# Altium schematic symbol library Passive.SchLib: 71 symbols
Pins are listed as number, name and electrical type; pins without a type are passive.

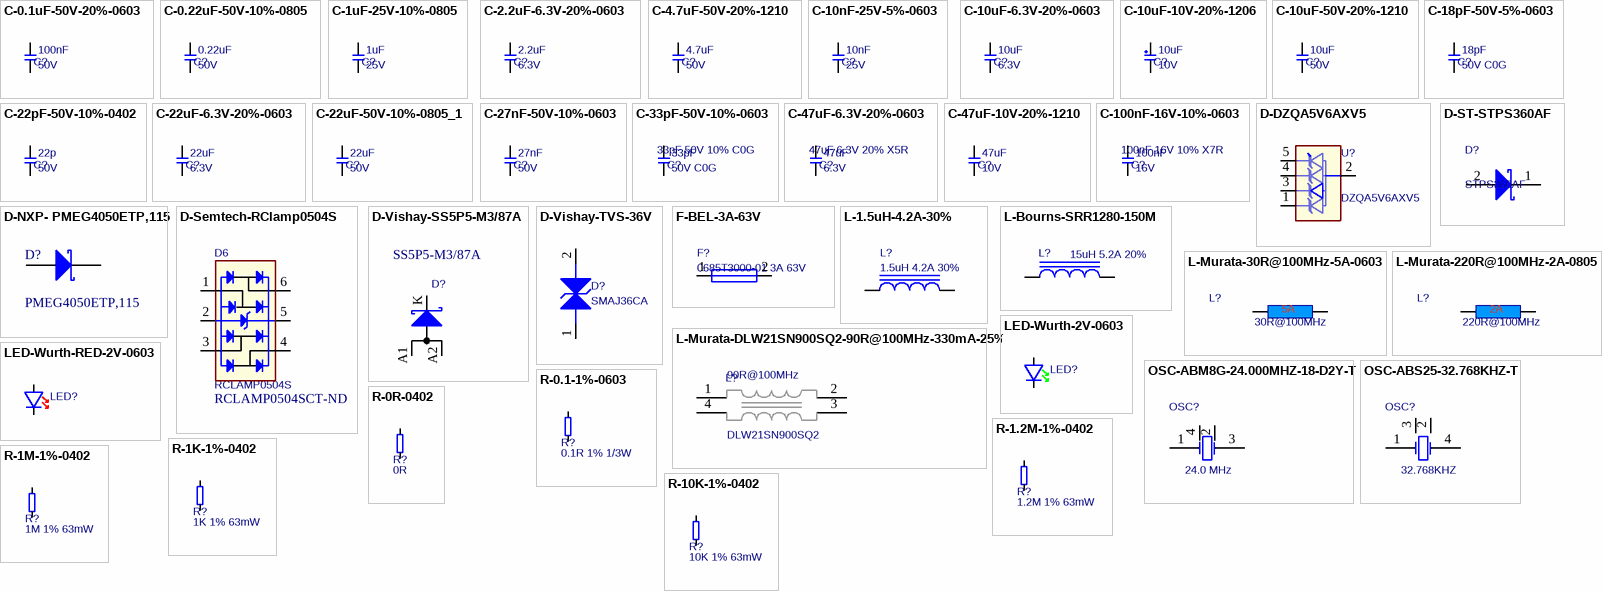
[diagram p0: symbols C-0.1uF-50V-20%-0603 to R-10K-1%-0402]

## C-0.1uF-50V-20%-0603
designator C?, comment value 100nF  Rating: 50V  (hidden comment: 0.1uF 50V 20% X5R)
Capacitor Ceramic X5R 0.1uF 50V 20% 0603; Tolerance: 20%; Supplier 1: Digi-Key; Supplier Part Number 1: 445-12499-1-ND; Type: X5R
footprint T_CAPC0603X33N
pins: 1, 2

## C-0.22uF-50V-10%-0805
designator C?, comment value 0.22uF  Rating: 50V  (hidden comment: 0.22uF 50V 10% X7R)
Capacitor Ceramic X7R 0.22uF 50V 10% 0805; Supplier 1: Digi-Key; Supplier Part Number 1: 1276-1093-1-ND; Type: X7R; Tolerance: 10%
footprint T_CAPC0805X125N
pins: 1, 2

## C-1uF-25V-10%-0805
designator C?, comment value 1uF  Rating: 25V  (hidden comment: 1uF 25V 10% X7R)
Capacitor Ceramic X7R 1uF 25V 10% 0805; Tolerance: 10%; Type: X7R; Supplier 1: Digi-Key; Supplier Part Number 1: 399-8004-1-ND
footprint T_CAPC0805X125N
pins: 1, 2

## C-2.2uF-6.3V-20%-0603
designator C?, comment value 2.2uF  Rating: 6.3V  (hidden comment: 2.2uF 6.3V 20% X5R)
Capacitor Ceramic X5R 2.2uF 6.3V 20% 0603; Tolerance: 20%; Supplier 1: Digi-Key; Supplier 2: Digi-Key; Supplier Part Number 2: 490-14808-1-ND; Supplier Part Number 1: 311-1814-1-ND; Type: X5R
footprint T_CAPC0603X33N
pins: 1, 2

## C-4.7uF-50V-20%-1210
designator C?, comment value 4.7uF  Rating: 50V  (hidden comment: 4.7uF 50V 20% X7R)
Capacitor Ceramic X7R 4.7uF 50V 20% 1206; Supplier 1: Digi-Key; Supplier Part Number 1: 1276-2789-1-ND; Tolerance: 20%; Type: X7R
footprint T_CAPC1206X180N (Ceramic Capacitor 1206 (3216 metric), max height 1.8mm)
pins: 1, 2

## C-10nF-25V-5%-0603
designator C?, comment value 10nF  Rating: 25V  (hidden comment: 10nF 25V 5% C0G)
Capacitor Ceramic C0G 10nF 25V 5% 0603; Tolerance: 10%; Type: X7R; Supplier 1: Digi-Key; Supplier Part Number 1: 399-7838-1-ND
footprint T_CAPC0603X33N
pins: 1, 2

## C-10uF-6.3V-20%-0603
designator C?, comment value 10uF  Rating: 6.3V  (hidden comment: 10uF 6.3V 20% X5R)
Capacitor Ceramic X5R 10uF 6.3V 20% 0603; Tolerance: 10%; Type: X7R; Supplier 1: Digi-Key; Supplier 2: Digi-Key; Supplier 3: Digi-Key; Supplier Part Number 1: 490-3896-1-ND; Supplier Part Number 2: 490-3896-6-ND; Supplier Part Number 3: 490-3896-2-ND
footprint T_CAPC0603X33N
pins: 1, 2

## C-10uF-10V-20%-1206
designator C?, comment value 10uF  Rating: 10V  (hidden comment: 10uF 10V 20% Tantalium)
Capacitor Tantalium 10uF 10V 20% 1206; Tolerance: 20%; Supplier 1: Digi-Key; Type: Tantalium; Supplier Part Number 1: 718-2335-1-ND
footprint T_CAPC1206X180N (Ceramic Capacitor 1206 (3216 metric), max height 1.8mm)
pins: 1, 2

## C-10uF-50V-20%-1210
designator C?, comment value 10uF  Rating: 50V  (hidden comment: 10uF 50V 20% X5R)
Capacitor Ceramic X5R 10uF 50V 20% 1210; Tolerance: 10%; Type: X7R; Supplier 1: Digi-Key; Supplier Part Number 1: 587-2225-1-ND; Footprint: C1210
footprint CAPC3225X160N
pins: 1, 2

## C-18pF-50V-5%-0603
designator C?, comment value 18pF  Rating: 50V  Type: C0G  (hidden comment: 18pF 50V 5% C0G)
Capacitor Ceramic C0G 18pF 50V 5% 0603; Tolerance: 5%; Supplier 1: Digi-Key; Supplier Part Number 1: 311-1061-1-ND
footprint T_CAPC0603X33N
pins: 1, 2

## C-22pF-50V-10%-0402
designator C?, comment value 22p  Rating: 50V  (hidden comment: 22pF 50V 10% C0G)
Capacitor Ceramic C0G 22pF 50V 10% 0603; Tolerance: 10%; Type: C0G; Footprint: C0402; Supplier 1: Digi-Key; Supplier Part Number 1: 478-7914-1-ND
footprint T_CAPC0603X33N
pins: 1, 2

## C-22uF-6.3V-20%-0603
designator C?, comment value 22uF  Rating: 6.3V  (hidden comment: 22uF 6.3V 20% X5R)
Capacitor Ceramic X5R 22uF 6.3V 20% 0603; Tolerance: 20%; Type: X5R; Supplier 1: Digi-Key; Supplier Part Number 1: 445-8028-1-ND
footprint T_CAPC0603X33N
pins: 1, 2

## C-22uF-50V-10%-0805_1
designator C?, comment value 22uF  Rating: 50V  (hidden comment: 0.22uF 50V 10% X7R)
Capacitor Ceramic X7R 0.22uF 50V 10% 0805; Tolerance: 10%; Type: X7R; Supplier 1: Digi-Key; Supplier Part Number 1: 1276-1093-1-ND
footprint T_CAPC0805X125N
pins: 1, 2

## C-27nF-50V-10%-0603
designator C?, comment value 27nF  Rating: 50V  (hidden comment: 27nF 50V 20% X7R)
Capacitor Ceramic X7R 27nF 50V 10% 0603; Tolerance: 10%; Type: X7R; Supplier 1: Digi-Key; Supplier Part Number 1: 1276-2025-1-ND
footprint T_CAPC0603X33N
pins: 1, 2

## C-33pF-50V-10%-0603
designator C?, comment 33pF 50V 10% C0G  value 33pF  Type: C0G  Rating: 50V
Capacitor Ceramic C0G 33pF 50V 10% 0603; Tolerance: 10%; Supplier 1: Digi-Key; Supplier 2: Digi-Key; Supplier 3: Digi-Key; Supplier Part Number 1: 478-12701-1-ND; Supplier Part Number 2: 478-12701-6-ND; Supplier Part Number 3: 478-12701-2-ND
footprint T_CAPC0603X33N
pins: 1, 2

## C-47uF-6.3V-20%-0603
designator C?, comment 47uF 6.3V 20% X5R  value 47uF  Rating: 6.3V
Capacitor Ceramic X5R 47uF 6.3V 20% 0603; Tolerance: 10%; Type: X7R; Supplier 1: Digi-Key; Supplier Part Number 1: 490-13247-1-ND
footprint T_CAPC0603X33N
pins: 1, 2

## C-47uF-10V-20%-1210
designator C?, comment value 47uF  Rating: 10V  (hidden comment: 47uF 10V 20% X5R)
Capacitor Ceramic X5R 47uF 10V 20% 1210; Type: X7R; Tolerance: 20%; Supplier 1: Digi-Key; Supplier Part Number 1: 445-6711-1-ND
footprint CAPC3225X160N
pins: 1, 2

## C-100nF-16V-10%-0603
designator C?, comment 100nF 16V 10% X7R  value 100nF  Rating: 16V
Capacitor Ceramic X7R 100nF 16V 10% 0603; Tolerance: 10%; Type: X7R; Footprint Checked: -; Supplier 1: Digi-Key; Supplier Part Number 1: 1276-1001-1-ND
footprint T_CAPC0603X33N
pins: 1, 2

## D-DZQA5V6AXV5
designator U?, comment DZQA5V6AXV5
13V Clamp 2.5A (8/20µs) Ipp Tvs Diode Surface Mount 5-TSSOP; FP_DESC: SOT553; MFG: DIODES; Symbol Checked: Ok; Replacement Allowed: No; MFG_PN: DZQA5V6AXV5; Footprint Checked: Assign OK, Footprint OK; Supplier 1: Digi-Key; Supplier Part Number 1: DZQA5V6AXV5DICT-ND
footprint SOTFL50P162X62-5N (SOTFL,0.50mm,pitch;5 pin,1.175mm W X 1.60mm L X 0.62mm H body)
pins: 1, 2, 3, 4, 5

## D-NXP- PMEG4050ETP,115
designator D?, comment PMEG4050ETP,115
Diode Schottky 40V 5A Surface Mount CFP5; Manufacturer: Nexperia USA Inc.; Supplier 1: Digi-Key; Supplier Part Number 1: 1727-1732-1-ND; Manufacturer Part Number: PMEG4050ETP,115
footprint D_SOD128 (Bidirectional ESD protection)
pins: 1 K, 2 A

## D-Semtech-RClamp0504S
designator D6, comment Supplier Part Number 1: RCLAMP0504SCT-ND  (hidden comment: RCLAMP0504S)
TVS Array low cap; Manufacturer Name: Semtech; Supplier 1: Digi-Key; Manufacturer Part No.: RCLAMP0504S
footprint T_SOT95P285X90-6N
pins: 1, 2 (power), 3, 4, 5 (power), 6

## D-ST-STPS360AF
designator D?, comment STPS360AF
DIODE ST STPS360AF 60V 3A; FP_DESC: SOD128; Symbol Checked: Ok; Replacement Allowed: No; MFG: ST; MFG_PN: STPS360AF; Footprint Checked: Assign OK, Footprint OK; Supplier 1: Digi-Key; Supplier 2: Digi-Key; Supplier 3: Digi-Key; Supplier Part Number 1: 497-16920-1-ND; Supplier Part Number 2: 497-16920-6-ND; Supplier Part Number 3: 497-16920-2-ND
footprint D_SOD128 (Bidirectional ESD protection)
pins: 1 K, 2 A

## D-Vishay-SS5P5-M3/87A
designator D?, comment SS5P5-M3/87A
Diode Schottky, SS5P5-M3/87A, 50V(Vrrm), 5A(If); Manufacturer: Vishay; Manufacturer Part Number: SS8P6C-M3/86A; Supplier 1: Digi-Key; Supplier Part Number 1: SS5P5-M3/87AGICT-ND
footprint T_DIOM_TO277A (Molded Diode, 3-Leads, Body 4.75x6.65mm, IPC Medium Density)
pins: A1, A2, K

## D-Vishay-TVS-36V
designator D?, comment SMAJ36CA
58.1V Clamp 6.9A Ipp Tvs Diode Surface Mount DO-214AC (SMA); MFG: Vishay; Symbol Checked: Ok; Replacement Allowed: No; FP_DESC: SMA; MFG_PN: SMAJ36CA; Footprint Checked: Assign OK, Footprint OK; Supplier 1: Digi-Key; Supplier Part Number 1: SMAJ36CALFCT-ND
footprint T_LITTLEFUSE_SMAJ30CA (Bidirectional ESD protection)
pins: 1 ANODE, 2 CATHODE

## F-BEL-3A-63V
designator F?, comment 0685T3000-01 3A 63V
3A 63V AC 63V DC Fuse Board Mount (Cartridge Style Excluded) Surface Mount 1206 (3216 Metric); FP_DESC: R1206; MFG: BEL; POWER: 250mW; Symbol Checked: Ok; Replacement Allowed: No; MFG_PN: 0685T3000-01; Footprint Checked: Assign OK, Footprint OK; VALUE: 3A; VOLTAGE: 63V; Supplier 1: Digi-Key; Supplier Part Number 1: 507-1896-1-ND
footprint RESC3216N (1206; Resistor,Chip;3.15mm L X 1.60mm W X 0.60mm H)
pins: 1, 2

## L-1.5uH-4.2A-30%
designator L?, comment 1.5uH 4.2A 30%
Inductor Ferrite core 1.5uH 4.2A 30%; MFG: TAIYO YUDEN; FP_DESC: L1008; EXTRA_DATA: Irms=4.2A Isat=5.1A; Replacement Allowed: No; MFG_PN: NRS6028T1R5NMGJ; Value: 1.5uH; Supplier 1: Digi-Key; Supplier 2: Digi-Key; Supplier 3: Digi-Key; Supplier 4: Digi-Key; Supplier 5: Digi-Key; Supplier 6: Digi-Key; Supplier Part Number 1: 587-2937-1-ND; Supplier Part Number 2: 587-2937-6-ND; Supplier Part Number 3: 587-2937-2-ND; Supplier Part Number 4: 587-2097-1-ND; Supplier Part Number 5: 587-2097-6-ND; Supplier Part Number 6: 587-2097-2-ND
footprint L_NR6028
pins: 1, 2

## L-Bourns-SRR1280-150M
designator L?, comment 15uH 5.2A 20%
FIXED IND 15UH 5.2A 28.5MOHM SMD; MFG: Bourns Inc.; FP_DESC: Non Standard; EXTRA_DATA: IrmsMAX=5.2A Isat=5A; Replacement Allowed: No; MFG_PN: SRR1280-150M; Value: 15uH; Supplier 1: Digi-Key; Supplier Part Number 1: SRR1280-150MCT-ND
footprint T_INDM125125X80N (Inductor shielded, 12.5mm X 12.5mm)
pins: 1, 2

## L-Murata-30R@100MHz-5A-0603
designator L?, comment value 30R@100MHz  (hidden comment: BLM18KG300TN1D)
30 Ohms @ 100MHz 1 Power Line Ferrite Bead 0603 (1608 Metric) 5A 10mOhm; Manufacturer Name: Murata; Manufacturer Name: EXC-ML20A390U; Rating: 4A; Tolerance: 25%; Supplier 1: Digi-Key; Supplier Part Number 1: 490-5447-1-ND; Footprint Checked: Ok, Assign Ok; Symbol Check: -
footprint INDC1608X95N (Chip Inductor, Body 1.6x0.8mm, IPC Medium Density)
pins: 1, 2
text: 5A

## L-Murata-220R@100MHz-2A-0805
designator L?, comment value 220R@100MHz  (hidden comment: BLM21PG221SN1D)
220 Ohms @ 100MHz 1 Power Line Ferrite Bead 0805 (2012 Metric) 2A 45mOhm; Manufacturer Name: Murata; Manufacturer Name: EXC-ML20A390U; Rating: 4A; Tolerance: 25%; Supplier 1: Digi-Key; Supplier Part Number 1: 490-1054-1-ND
footprint INDC2012X140N (Chip Inductor, Body 2.0x1.3mm, IPC Medium Density)
pins: 1, 2
text: 2A

## L-Murata-DLW21SN900SQ2-90R@100MHz-330mA-25%
designator L?, comment value 90R@100MHz  (hidden comment: DLW21SN900SQ2)
Common Mode Choke High Speed 90R 330mA; Manufacturer: Murata; Tolerance: 25%; Rating: 330mA; Supplier 1: Digi-Key; Supplier Part Number 1: 490-5137-1-ND; Manufacturer Part No.: DLW21SN900SQ2
footprint T_Murata_DLW21SN900SQ2 (Common Mode Choke)
pins: 1, 2, 3, 4

## LED-Wurth-2V-0603
designator LED?, comment 150060VS75000 0603 2V  (value not drawn)
Green 570nm LED Indication - Discrete 2V 0603 (1608 Metric); MFG_PN: 150060VS75000; Color: GREEN; Supplier 1: Digi-Key; Supplier Part Number 1: 732-4980-1-ND
footprint LEDC1608X80N
pins: 1, 2

## LED-Wurth-RED-2V-0603
designator LED?, comment 150060VS75000 0603 2V  (value not drawn)
Green 570nm LED Indication - Discrete 2V 0603 (1608 Metric); Color: RED; MFG_PN: 150060VS75000; Supplier 1: Digi-Key; Supplier Part Number 1: 732-4978-1-ND
footprint LEDC1608X80N
pins: 1, 2

## OSC-ABM8G-24.000MHZ-18-D2Y-T
designator OSC?, comment value 24.0 MHz  (hidden comment: CRYSTAL 24.0000MHZ 18PF SMD)
24MHz ±20ppm Crystal 18pF 60 Ohms 4-SMD, No Lead; Manufacturer Name: HORIZON; Manufacturer Part No.: HEX24-24000MHz-18-50R-F-H2-T2-W2-T; Tolerance: 30ppm; Supplier 1: Digi-Key; Supplier Part Number 1: 535-10273-1-ND
footprint XTAL3.2x2.5
pins: 1 OSC1, 2, 3 OSC2, 4

## OSC-ABS25-32.768KHZ-T
designator OSC?, comment value 32.768KHZ  (hidden comment: CRYSTAL 32.7680KHZ 12.5PF SMD)
32.768kHz ±20ppm Cristal 12.5pF  4-SOJ, 5.50mm step; Manufacturer Name: ABRACON; Manufacturer Part No.: ABS25-32.768KHZ-T; Tolerance: 20ppm; Supplier 1: Digi-Key; Supplier Part Number 1: 535-9166-1-ND
footprint OSC_ABRACON_ABS25 (OSC)
pins: 1 OSC1, 2, 3, 4 OSC4

## R-0.1-1%-0603
designator R?, comment 0.1R 1% 1/3W
Resistor 0.1ohm 1/3W 1% 0603; Manufacturer: <GENERIC>; Power: 1/3; Replacement Allowed: Yes; Tolerance: 1%; Footprint: R0603; Manufacturer Part Number: <GENERIC>; Value: 0.1R; Supplier 1: Digi-Key; Supplier Part Number 1: P17478CT-ND
footprint RESC1608N (Chip Resistor, Body 1.6x0.8mm, IPC Medium Density)
pins: 1, 2

## R-0R-0402
designator R?, comment 0R
Resistor 0ohm 0402; Manufacturer: <GENERIC>; Tolerance: 1%; Replacement Allowed: Yes; Power: ?; Value: 0R; Footprint: R0402; Manufacturer Part Number: <GENERIC>; Supplier 1: Digi-Key; Supplier 2: Digi-Key; Supplier Part Number 2: 541-0.0JDKR-ND; Supplier Part Number 1: 311-0.0JRDKR-ND
footprint RESC1005X40N
pins: 1, 2

## R-1.2M-1%-0402
designator R?, comment 1.2M 1% 63mW
Resistor 1.2Mohm 63mW 1% 0402; Manufacturer: <GENERIC>; Replacement Allowed: Yes; Power: 63mW; Tolerance: 1%; Footprint: R0402; Manufacturer Part Number: <GENERIC>; Value: 1.2M; Supplier 1: Digi-Key; Supplier Part Number 1: 541-1.20MLCT-ND
footprint RESC1005X40N
pins: 1, 2

## R-1K-1%-0402
designator R?, comment 1K 1% 63mW
Resistor 1Kohm 63mW 1% 0402; Manufacturer: <GENERIC>; Replacement Allowed: Yes; Power: 63mW; Tolerance: 1%; Footprint: R0402; Manufacturer Part Number: <GENERIC>; Value: 1K; Supplier 1: Digi-Key; Supplier Part Number 1: YAG2306CT-ND
footprint RESC1005X40N
pins: 1, 2

## R-1M-1%-0402
designator R?, comment 1M 1% 63mW
Resistor 1Mohm 63mW 1% 0402; Manufacturer: <GENERIC>; Replacement Allowed: Yes; Power: 63mW; Tolerance: 1%; Footprint: R0402; Manufacturer Part Number: <GENERIC>; Value: 1M; Supplier 1: Digi-Key; Supplier Part Number 1: 541-1.00MLCT-ND
footprint RESC1005X40N
pins: 1, 2

## R-10K-1%-0402
designator R?, comment 10K 1% 63mW
Resistor 10Kohm 63mW 1% 0402; Manufacturer: <GENERIC>; Replacement Allowed: Yes; Power: 63mW; Tolerance: 1%; Value: 10k; Footprint: R0402; Manufacturer Part Number: <GENERIC>; Supplier 1: Digi-Key; Supplier 2: Digi-Key; Supplier Part Number 2: 311-10.0KLRCT-ND; Supplier Part Number 1: 541-10.0KLDKR-ND
footprint RESC1005X40N
pins: 1, 2

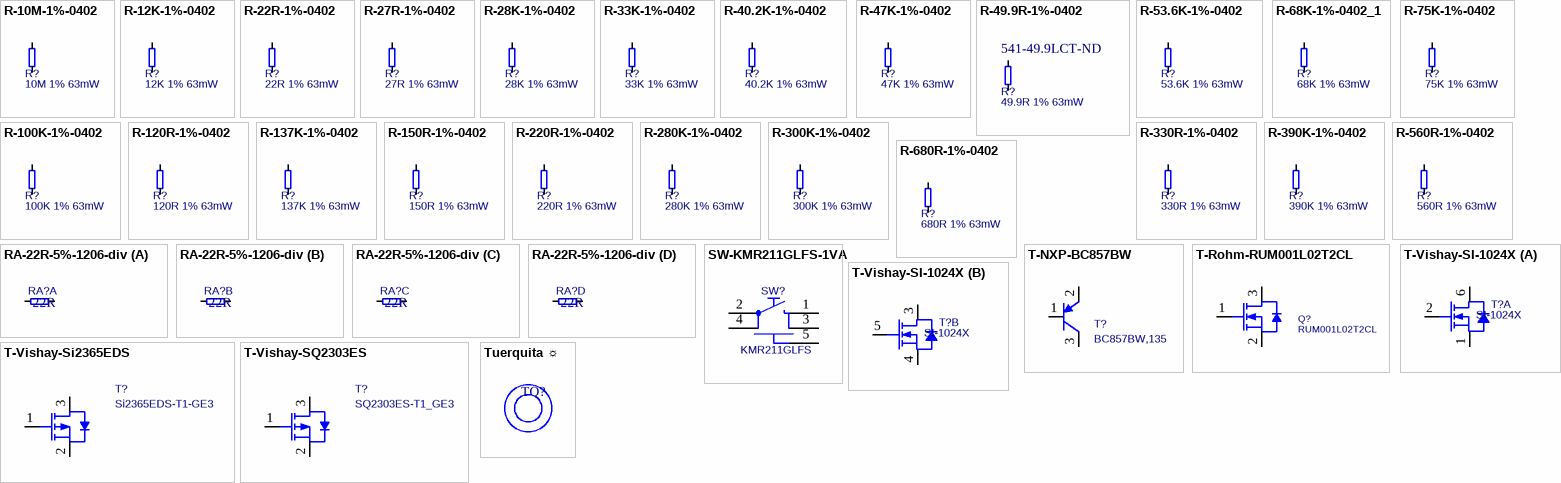
[diagram p1: symbols R-10M-1%-0402 to Tuerquita ☼]

## R-10M-1%-0402
designator R?, comment 10M 1% 63mW
Resistor 10Mohm 63mW 1% 0402; Manufacturer: <GENERIC>; Replacement Allowed: Yes; Power: 63mW; Tolerance: 1%; Footprint: R0402; Manufacturer Part Number: <GENERIC>; Value: 10M; Supplier 1: Digi-Key; Supplier Part Number 1: RMCF0402FT10M0CT-ND
footprint RESC1005X40N
pins: 1, 2

## R-12K-1%-0402
designator R?, comment 12K 1% 63mW
Resistor 12Kohm 63mW 1% 0402; Manufacturer: <GENERIC>; Replacement Allowed: Yes; Power: 63mW; Tolerance: 1%; Footprint: R0402; Manufacturer Part Number: <GENERIC>; Value: 12K; Supplier 1: Digi-Key; Supplier 2: Digi-Key; Supplier Part Number 2: 311-12.0KLRCT-ND; Supplier Part Number 1: 541-12.0KLCT-ND
footprint RESC1005X40N
pins: 1, 2

## R-22R-1%-0402
designator R?, comment 22R 1% 63mW
Resistor 22ohm 63mW 1% 0402; Manufacturer: <GENERIC>; Replacement Allowed: Yes; Value: 22; Power: 63mW; Tolerance: 1%; Footprint: R0402; Manufacturer Part Number: <GENERIC>; Supplier 1: Digi-Key; Supplier 2: Digi-Key; Supplier Part Number 1: 541-120LCT-ND; Supplier Part Number 2: 311-120LRCT-ND
footprint RESC1005X40N
pins: 1, 2

## R-27R-1%-0402
designator R?, comment 27R 1% 63mW
Resistor 27ohm 63mW 1% 0402; Manufacturer: <GENERIC>; Replacement Allowed: Yes; Value: 27; Power: 63mW; Tolerance: 1%; Footprint: R0402; Manufacturer Part Number: <GENERIC>; Supplier 1: Digi-Key; Supplier 2: Digi-Key; Supplier Part Number 1: 541-120LCT-ND; Supplier Part Number 2: 311-120LRCT-ND
footprint RESC1005X40N
pins: 1, 2

## R-28K-1%-0402
designator R?, comment 28K 1% 63mW
Resistor 28Kohm 63mW 1% 0402; Manufacturer: <GENERIC>; Replacement Allowed: Yes; Power: 63mW; Tolerance: 1%; Footprint: R0402; Manufacturer Part Number: <GENERIC>; Value: 28k; Supplier 1: Digi-Key; Supplier Part Number 1: 541-28.0KLCT-ND
footprint RESC1005X40N
pins: 1, 2

## R-33K-1%-0402
designator R?, comment 33K 1% 63mW
Resistor 33Kohm 63mW 1% 0402; Manufacturer: <GENERIC>; Replacement Allowed: Yes; Power: 63mW; Tolerance: 1%; Footprint: R0402; Manufacturer Part Number: <GENERIC>; Value: 33K; Supplier 1: Digi-Key; Supplier Part Number 1: 541-33.0KLCT-ND
footprint RESC1005X40N
pins: 1, 2

## R-40.2K-1%-0402
designator R?, comment 40.2K 1% 63mW
Resistor 40.2Kohm 63mW 1% 0402; Manufacturer: <GENERIC>; Replacement Allowed: Yes; Power: 63mW; Tolerance: 1%; Footprint: R0402; Manufacturer Part Number: <GENERIC>; Value: 40.2k; Supplier 1: Digi-Key; Supplier Part Number 1: 541-40.2KLCT-ND
footprint RESC1005X40N
pins: 1, 2

## R-47K-1%-0402
designator R?, comment 47K 1% 63mW
Resistor 47Kohm 63mW 1% 0402; Manufacturer: <GENERIC>; Replacement Allowed: Yes; Power: 63mW; Tolerance: 1%; Footprint: R0402; Manufacturer Part Number: <GENERIC>; Value: 47K; Supplier 1: Digi-Key; Supplier Part Number 1: 311-47.0KLRCT-ND
footprint RESC1005X40N
pins: 1, 2

## R-49.9R-1%-0402
designator R?, comment 49.9R 1% 63mW  Supplier Part Number 1: 541-49.9LCT-ND
Resistor 49.9ohm 63mW 1% 0402; Manufacturer: <GENERIC>; Replacement Allowed: Yes; Value: 49.9; Power: 63mW; Tolerance: 1%; Footprint: R0402; Manufacturer Part Number: <GENERIC>; Supplier 1: Digi-Key
footprint RESC1005X40N
pins: 1, 2

## R-53.6K-1%-0402
designator R?, comment 53.6K 1% 63mW
Resistor 53.6Kohm 63mW 1% 0402; Manufacturer: <GENERIC>; Replacement Allowed: Yes; Power: 63mW; Tolerance: 1%; Footprint: R0402; Manufacturer Part Number: <GENERIC>; Value: 53.6k; Supplier 1: Digi-Key; Supplier 2: Digi-Key; Supplier Part Number 1: 311-68.0KLRCT-ND; Supplier Part Number 2: 541-68.0KLCT-ND
footprint RESC1005X40N
pins: 1, 2

## R-68K-1%-0402_1
designator R?, comment 68K 1% 63mW
Resistor 68Kohm 63mW 1% 0402; Manufacturer: <GENERIC>; Replacement Allowed: Yes; Power: 63mW; Tolerance: 1%; Footprint: R0402; Manufacturer Part Number: <GENERIC>; Value: 68K; Supplier 1: Digi-Key; Supplier 2: Digi-Key; Supplier Part Number 1: 311-68.0KLRCT-ND; Supplier Part Number 2: 541-68.0KLCT-ND
footprint RESC1005X40N
pins: 1, 2

## R-75K-1%-0402
designator R?, comment 75K 1% 63mW
Resistor 75Kohm 63mW 1% 0402; Manufacturer: <GENERIC>; Replacement Allowed: Yes; Power: 63mW; Tolerance: 1%; Footprint: R0402; Manufacturer Part Number: <GENERIC>; Value: 75k; Supplier 1: Digi-Key; Supplier 2: Digi-Key; Supplier Part Number 2: 311-12.0KLRCT-ND; Supplier Part Number 1: 541-12.0KLCT-ND
footprint RESC1005X40N
pins: 1, 2

## R-100K-1%-0402
designator R?, comment 100K 1% 63mW
Resistor 100Kohm 63mW 1% 0402; Manufacturer: <GENERIC>; Replacement Allowed: Yes; Power: 63mW; Tolerance: 1%; Value: 100k; Footprint: R0402; Manufacturer Part Number: <GENERIC>; Supplier 1: Digi-Key; Supplier 2: Digi-Key; Supplier Part Number 2: 541-100KLCT-ND; Supplier Part Number 1: 311-100KLRDKR-ND
footprint RESC1005X40N
pins: 1, 2

## R-120R-1%-0402
designator R?, comment 120R 1% 63mW
Resistor 120ohm 63mW 1% 0402; Manufacturer: <GENERIC>; Replacement Allowed: Yes; Power: 63mW; Tolerance: 1%; Footprint: R0402; Manufacturer Part Number: <GENERIC>; Value: 120R; Supplier 1: Digi-Key; Supplier 2: Digi-Key; Supplier Part Number 1: 541-120LCT-ND; Supplier Part Number 2: 311-120LRCT-ND
footprint RESC1005X40N
pins: 1, 2

## R-137K-1%-0402
designator R?, comment 137K 1% 63mW
Resistor 137Kohm 63mW 1% 0402; Manufacturer: <GENERIC>; Replacement Allowed: Yes; Power: 63mW; Tolerance: 1%; Footprint: R0402; Manufacturer Part Number: <GENERIC>; Value: 137k; Supplier 1: Digi-Key; Supplier Part Number 1: 541-137KLCT-ND
footprint RESC1005X40N
pins: 1, 2

## R-150R-1%-0402
designator R?, comment 150R 1% 63mW
Resistor 150ohm 63mW 1% 0402; Manufacturer: <GENERIC>; Replacement Allowed: Yes; Power: 63mW; Tolerance: 1%; Footprint: R0402; Manufacturer Part Number: <GENERIC>; Value: 150R; Supplier 1: Digi-Key; Supplier 2: Digi-Key; Supplier Part Number 1: 311-150JRCT-ND; Supplier Part Number 2: 541-150LCT-ND
footprint RESC1005X40N
pins: 1, 2

## R-220R-1%-0402
designator R?, comment 220R 1% 63mW
Resistor 220ohm 63mW 1% 0402; Manufacturer: <GENERIC>; Replacement Allowed: Yes; Power: 63mW; Tolerance: 1%; Footprint: R0402; Manufacturer Part Number: <GENERIC>; Value: 220R; Supplier 1: Digi-Key; Supplier Part Number 1: 541-220LCT-ND
footprint RESC1005X40N
pins: 1, 2

## R-280K-1%-0402
designator R?, comment 280K 1% 63mW
Resistor 280Kohm 63mW 1% 0402; Manufacturer: <GENERIC>; Replacement Allowed: Yes; Power: 63mW; Tolerance: 1%; Footprint: R0402; Manufacturer Part Number: <GENERIC>; Value: 280k; Supplier 1: Digi-Key; Supplier Part Number 1: 541-280KLCT-ND
footprint RESC1005X40N
pins: 1, 2

## R-300K-1%-0402
designator R?, comment 300K 1% 63mW
Resistor 300Kohm 63mW 1% 0402; Manufacturer: <GENERIC>; Replacement Allowed: Yes; Power: 63mW; Tolerance: 1%; Footprint: R0402; Manufacturer Part Number: <GENERIC>; Value: 300K; Supplier 1: Digi-Key; Supplier Part Number 1: RMCF0402FT300KCT-ND
footprint RESC1005X40N
pins: 1, 2

## R-330R-1%-0402
designator R?, comment 330R 1% 63mW
Resistor 330ohm 63mW 1% 0402; Manufacturer: <GENERIC>; Replacement Allowed: Yes; Power: 63mW; Tolerance: 1%; Footprint: R0402; Manufacturer Part Number: <GENERIC>; Value: 330R; Supplier 1: Digi-Key; Supplier 2: Digi-Key; Supplier Part Number 2: 311-330LRCT-ND; Supplier Part Number 1: 541-330LCT-ND
footprint RESC1005X40N
pins: 1, 2

## R-390K-1%-0402
designator R?, comment 390K 1% 63mW
Resistor 390Kohm 63mW 1% 0402; Manufacturer: <GENERIC>; Replacement Allowed: Yes; Power: 63mW; Tolerance: 1%; Footprint: R0402; Manufacturer Part Number: <GENERIC>; Value: 390K; Supplier 1: Digi-Key; Supplier Part Number 1: 541-390KLCT-ND
footprint RESC1005X40N
pins: 1, 2

## R-560R-1%-0402
designator R?, comment 560R 1% 63mW
Resistor 560ohm 63mW 1% 0402; Manufacturer: <GENERIC>; Replacement Allowed: Yes; Power: 63mW; Tolerance: 1%; Footprint: R0402; Manufacturer Part Number: <GENERIC>; Value: 560R; Supplier 1: Digi-Key; Supplier 2: Digi-Key; Supplier Part Number 2: 311-560LRCT-ND; Supplier Part Number 1: 541-560LCT-ND
footprint RESC1005X40N
pins: 1, 2

## R-680R-1%-0402
designator R?, comment 680R 1% 63mW
Resistor 680ohm 63mW 1% 0402; Manufacturer: <GENERIC>; Replacement Allowed: Yes; Power: 63mW; Tolerance: 1%; Footprint: R0402; Manufacturer Part Number: <GENERIC>; Value: 680R; Supplier 1: Digi-Key; Supplier 2: Digi-Key; Supplier Part Number 2: 311-560LRCT-ND; Supplier Part Number 1: 541-560LCT-ND
footprint RESC1005X40N
pins: 1, 2

## RA-22R-5%-1206-div
designator RA?, comment 22R
Resistor Array 22 R 63mW 5% 1206; Manufacturer Name: Generic; Tolerance: 5%; Power Dissipation: 63mW; Manufacturer Part Number: *; Supplier 1: Digi-Key; Supplier 2: Digi-Key; Supplier Part Number 1: TC164J-22CT-ND; Supplier Part Number 2: CRA6S822CT-ND; Value: 22R
footprint T_Resistor_Array_X4 (Resistor Array 0.8mm)
part A pins: 1, 5
part B pins: 2, 6
part C pins: 3, 7
part D pins: 4, 8

## SW-KMR211GLFS-1VA
designator SW?, comment KMR211GLFS
Power ON Switch; Manufacturer Name: C&N; Rating: 1VA; Manufacturer Part No.: KMR211GLFS; Supplier 1: Digi-Key; Supplier Part Number 1: 401-1426-1-ND
footprint T_CnK_KMR211GLFS (Microminiature Tact Switch for SMT)
pins: 1, 2, 3, 4, 5

## T-NXP-BC857BW
designator T?, comment BC857BW,135
PNP Transistor NXP BC857BW,135; FP_DESC: SOT323; Symbol Checked: Ok; Replacement Allowed: No; MFG: NXP; MFG_PN: BC857BW,135; Footprint Checked: Assign OK, Footprint OK; Supplier 1: Digi-Key; Supplier 2: Digi-Key; Supplier 3: Digi-Key; Supplier Part Number 1: 1727-1882-1-ND; Supplier Part Number 2: 1727-1882-6-ND; Supplier Part Number 3: 1727-1882-2-ND
footprint SOT65P210X110-3N
pins: 1 B, 2 E, 3 C

## T-Rohm-RUM001L02T2CL
designator Q?, comment RUM001L02T2CL
N-Channel 20V 100mA (Ta) 150mW (Ta) Surface Mount VMT3; FP_DESC: SOT-723; MFG: Rohm Semiconductor Inc.; MFG_PN: RUM001L02T2CL; Footprint Checked: Ok; Simbol Checked: -; Supplier 1: Digi-Key; Supplier 2: Digi-Key; Supplier Part Number 1: RUM001L02T2CLCT-ND; Supplier Part Number 2: RUM001L02T2CLDKR-ND
footprint TRANS_RUM001_ROM
pins: 1 G, 2 D, 3 S

## T-Vishay-Si2365EDS
designator T?, comment Si2365EDS-T1-GE3
MOSFET, P channel Vishay Si2365EDS-T1-GE3; FP_DESC: SOT23-3; Symbol Checked: Ok; Replacement Allowed: No; MFG: VISHAY; MFG_PN: Si2365EDS-T1-GE3; Footprint Checked: Assign OK, Footprint OK; Supplier 1: Digi-Key; Supplier 2: Digi-Key; Supplier 3: Digi-Key; Supplier Part Number 2: SI2365EDS-T1-GE3DKR-ND; Supplier Part Number 3: SI2365EDS-T1-GE3TR-ND; Supplier Part Number 1: SI2365EDS-T1-GE3CT-ND
footprint SOT95P230X110-3N
pins: 1 G, 2 D, 3 S

## T-Vishay-SI-1024X
designator T?, comment SI-1024X
Mosfet Array 2 N-Channel (Dual) 20V 485mA 250mW Surface Mount SC-89-6; Manufacturer Name: Vishay; Manufacturer Part No.: SI-1024-X; Supplier 1: Digi-Key; Supplier Part Number 1: SI1024X-T1-GE3CT-ND
footprint SOTFL50P160X60-6N
part A pins: 1 S, 2 G, 6 D
part B pins: 3 D, 4 S, 5 G

## T-Vishay-SQ2303ES
designator T?, comment SQ2303ES-T1_GE3
P-Channel 30V 2.5A (Tc) 1.9W (Tc) Surface Mount TO-236 (SOT-23); MFG: VISHAY; FP_DESC: SOT23-3; Symbol Checked: Ok; Replacement Allowed: No; MFG_PN: SQ2303ES-T1_GE3; Footprint Checked: Assign OK, Footprint OK; Supplier 1: Digi-Key; Supplier Part Number 1: SQ2303ES-T1_GE3CT-ND
footprint SOT95P230X110-3N
pins: 1 G, 2 D, 3 S

## Tuerquita ☼
designator TQ?, comment Tuerquita  (value not drawn)
SMT nut, M2, H=4mm; MFPN: SMTSO-M2-4ET